# Altium schematic symbol library 1217861-1.SchLib: 1 symbol
Pins are listed as number, name and electrical type; pins without a type are passive.

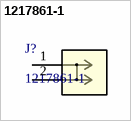
[diagram p0: symbol 1217861-1]

## 1217861-1
designator J?
250 FASTON,PCB TAB,TCBR; Manufacturer_Name: TE Connectivity; Copyright: Copyright (C) 2025 Ultra Librarian. All rights reserved.; Manufacturer_Part_Number: 1217861-1; RefDes: RefDes; Type: Type
footprint CONN_1217861-1_TEC
pins: 1, 2